# Altium footprint library TTNNODE_V3.PcbLib: 21 footprints (part 1 of 2)
Each footprint in its own frame and in the unit in brackets; x right, y up, seen from the top. Pads: shape width x height; smd on the part's side, far side on the other; paste and mask are expansions set on the pad; w line width, h text height; cw(c..) or ccw(c..) is an arc to the next point about the centre after c.
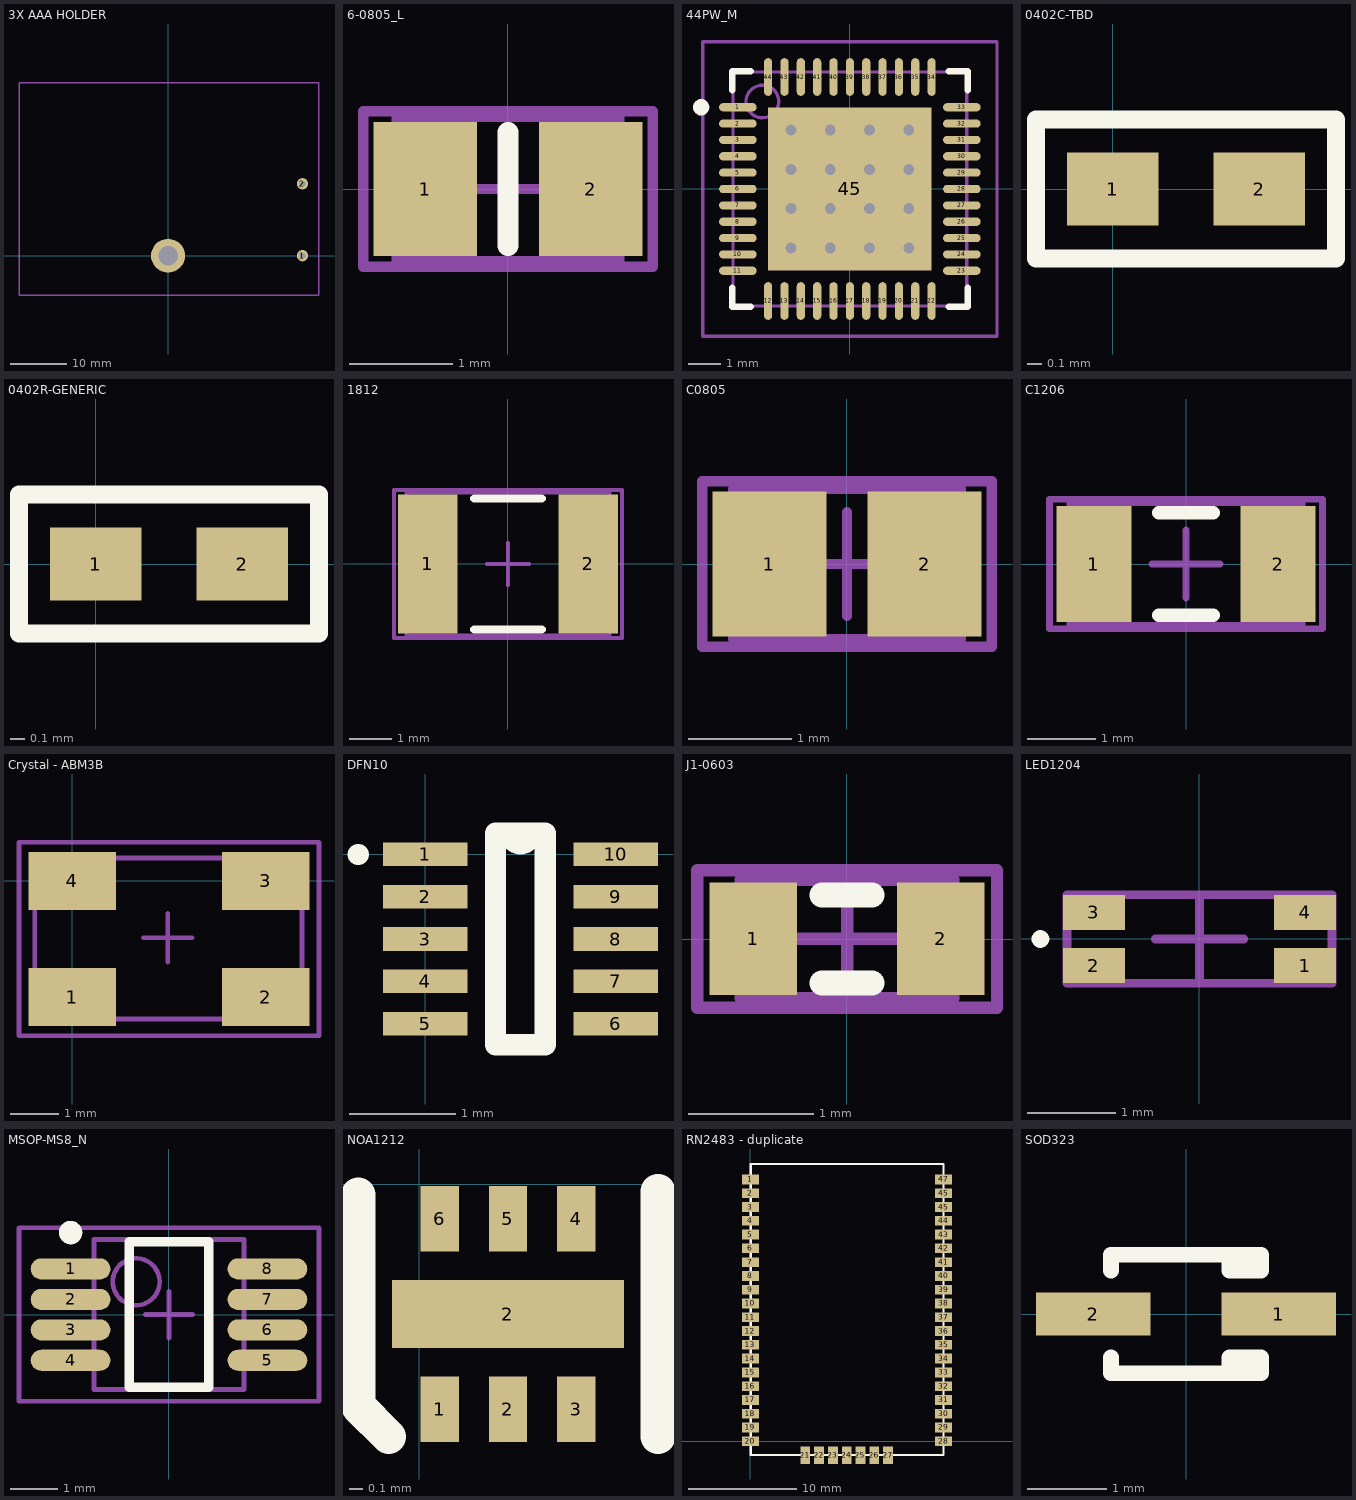
[diagram p0: the footprints below, top view; thin cyan lines are the x and y axes]

## 3X AAA HOLDER [mm] "Keystone PC Battery HOLDER (3) 'AAA': farnell: 1080990"
height 13
pads (3):
  round 2 hole 1.02: 1(23.725,0) 2(23.725,12.7)
  round 6 hole 3.45 unplated: ""(0,0)
Mechanical 1:
  lines w0.254: -26.325,-6.975 26.65,-6.975 26.65,30.525 -26.325,30.525 -26.325,-6.975
3D body "keystone-PN2479.STEP": height 13.78, standoff -12.14, extent -26.334,-6.975 26.65,30.515

## 6-0805_L [mm] "Chip Resistor, Body 2.0x1.2mm, IPC High Density"
height 0.7
pads (2):
  rect 1x1.3 smd: 1(-0.8,0) 2(0.8,0)
Top Overlay:
  lines w0.2: 0,-0.55 0,0.55
Mechanical 13:
  lines w0.1: -1.075,-0.7 1.075,-0.7 1.075,0.7 -1.075,0.7 -1.075,-0.7
Mechanical 15:
  lines w0.1: -0.5,0 0.5,0 ; 0,-0.5 0,0.5 ; -1.4,-0.75 1.4,-0.75 1.4,0.75 -1.4,0.75 -1.4,-0.75
3D body: height 0.7, standoff 0, extent -1.075,-0.7 1.075,0.7

## 44PW_M [mm] "QFN, 44-Leads, Body 7x7mm, Pitch 0.5mm, IPC Low Density"
height 1
pads (45):
  oval 1.15x0.25 smd: 1(-3.425,2.5) 2(-3.425,2) 3(-3.425,1.5) 4(-3.425,1) 5(-3.425,0.5) 6(-3.425,0) 7(-3.425,-0.5) 8(-3.425,-1) 9(-3.425,-1.5) 10(-3.425,-2) 11(-3.425,-2.5) 23(3.425,-2.5) 24(3.425,-2) 25(3.425,-1.5) 26(3.425,-1) 27(3.425,-0.5) 28(3.425,0) 29(3.425,0.5) 30(3.425,1) 31(3.425,1.5) 32(3.425,2) 33(3.425,2.5)
  oval 0.25x1.15 smd: 12(-2.5,-3.425) 13(-2,-3.425) 14(-1.5,-3.425) 15(-1,-3.425) 16(-0.5,-3.425) 17(0,-3.425) 18(0.5,-3.425) 19(1,-3.425) 20(1.5,-3.425) 21(2,-3.425) 22(2.5,-3.425) 34(2.5,3.425) 35(2,3.425) 36(1.5,3.425) 37(1,3.425) 38(0.5,3.425) 39(0,3.425) 40(-0.5,3.425) 41(-1,3.425) 42(-1.5,3.425) 43(-2,3.425) 44(-2.5,3.425)
  rect 5x5 smd paste-0.3: 45(0,0)
via -1.8,1.8 diameter 0.66 hole 0.33
via -0.6,1.8 diameter 0.66 hole 0.33
via 0.6,1.8 diameter 0.66 hole 0.33
via 1.8,1.8 diameter 0.66 hole 0.33
via -1.8,0.6 diameter 0.66 hole 0.33
via -0.6,0.6 diameter 0.66 hole 0.33
via 0.6,0.6 diameter 0.66 hole 0.33
via 1.8,0.6 diameter 0.66 hole 0.33
via -1.8,-0.6 diameter 0.66 hole 0.33
via -0.6,-0.6 diameter 0.66 hole 0.33
via 0.6,-0.6 diameter 0.66 hole 0.33
via 1.8,-0.6 diameter 0.66 hole 0.33
via -1.8,-1.8 diameter 0.66 hole 0.33
via -0.6,-1.8 diameter 0.66 hole 0.33
via 0.6,-1.8 diameter 0.66 hole 0.33
via 1.8,-1.8 diameter 0.66 hole 0.33
Top Overlay:
  circle w0.25: c-4.55,2.5 r0.125
  lines w0.2: -3.6,-3.025 -3.6,-3.6 -3.025,-3.6 ; -3.6,3.025 -3.6,3.6 -3.025,3.6 ; 3.025,-3.6 3.6,-3.6 3.6,-3.025 ; 3.025,3.6 3.6,3.6 3.6,3.025
Mechanical 13:
  circle w0.1: c-2.675,2.675 r0.5
  lines w0.1: -3.575,-3.575 -3.575,3.575 3.575,3.575 3.575,-3.575 -3.575,-3.575
Mechanical 15:
  lines w0.1: -0.5,0 0.5,0 ; 0,-0.5 0,0.5 ; -4.5,-4.5 -4.5,4.5 4.5,4.5 4.5,-4.5 -4.5,-4.5
3D body: height 1, standoff 0, extent -3.575,-3.575 3.575,3.575

## 0402C-TBD [mil]
pads (2):
  rect 25x20 smd: 1(0,0) 2(40,0)
Top Overlay:
  lines w5: -21,-19 61,-19 61,19 -21,19 -21,-19
3D body: height 19, standoff 0, extent 32,-9 39,9
3D body: height 19, standoff 18, extent 17.5,-3 22.5,5
3D body: height 19, standoff 18, extent 19.5,-5 20.5,-4
3D body: height 19, standoff 18, extent 26,-5 27,-4
3D body: height 19, standoff 18, extent 24,-3 29,5
3D body: height 19, standoff 18, extent 13,-5 14,-4
3D body: height 19, standoff 18, extent 11,-3 16,5
3D body: height 18, standoff 0, extent 3,-8 38,8
3D body: height 19, standoff 0, extent 2,-9 9,9

## 0402R-GENERIC [mil]
pads (2):
  rect 25x20 smd: 1(0,0) 2(40,0)
Top Overlay:
  lines w5: -21,-19 -21,19 61,19 61,-19 -21,-19
3D body: height 13, standoff 0, extent -5.5,-10 3.5,10
3D body: height 14, standoff 0, extent 37,-10 46,10
3D body: height 13, standoff 12, extent 3.5,-8 43.5,8
3D body: height 12, standoff 0, extent -4.5,-9.5 41,9.5

## 1812 [mm] "Chip Capacitor, Body 4.5x3.2mm, IPC High Density"
height 1.4
pads (2):
  rect 1.4x3.3 smd: 1(-1.9,0) 2(1.9,0)
Top Overlay:
  lines w0.2: -0.8,-1.55 0.8,-1.55 ; -0.8,1.55 0.8,1.55
Mechanical 13:
  lines w0.1: -2.4,-1.7 2.4,-1.7 2.4,1.7 -2.4,1.7 -2.4,-1.7
Mechanical 15:
  lines w0.1: -0.5,0 0.5,0 ; 0,-0.5 0,0.5 ; -2.7,-1.75 2.7,-1.75 2.7,1.75 -2.7,1.75 -2.7,-1.75
3D body: height 1.4, standoff 0, extent -2.4,-1.7 2.4,1.7

## C0805 [mm] "Chip Capacitor, Body 2.0x1.3mm, IPC High Density"
height 1.4
pads (2):
  rect 1.1x1.4 smd: 1(-0.75,0) 2(0.75,0)
Mechanical 13:
  lines w0.1: -1.1,-0.725 -1.1,0.725 1.1,0.725 1.1,-0.725 -1.1,-0.725
Mechanical 15:
  lines w0.1: -0.5,0 0.5,0 ; 0,-0.5 0,0.5 ; -1.4,-0.8 -1.4,0.8 1.4,0.8 1.4,-0.8 -1.4,-0.8
3D body: height 1.4, standoff 0, extent -1.1,-0.725 1.1,0.725

## C1206 [mm] "Chip Capacitor, Body 3.2x1.6mm, IPC High Density"
height 1.3
pads (2):
  rect 1.1x1.7 smd: 1(-1.35,0) 2(1.35,0)
Top Overlay:
  lines w0.2: -0.4,-0.75 0.4,-0.75 ; -0.4,0.75 0.4,0.75
Mechanical 13:
  lines w0.1: -1.7,-0.9 1.7,-0.9 1.7,0.9 -1.7,0.9 -1.7,-0.9
Mechanical 15:
  lines w0.1: -0.5,0 0.5,0 ; 0,-0.5 0,0.5 ; -2,-0.95 2,-0.95 2,0.95 -2,0.95 -2,-0.95
3D body: height 1.3, standoff 0, extent -1.7,-0.9 1.7,0.9

## Crystal - ABM3B [mm] "5x3.5 mm 8 Mhz Crystal: ABRACON ABM3B"
height 1.1
pads (4):
  rect 1.8x1.2 smd: 1(0,-2.4) 2(4,-2.4) 3(4,0) 4(0,0)
Mechanical 13:
  lines w0.1: -0.775,-2.85 4.75,-2.85 4.75,0.475 -0.775,0.475 -0.775,-2.85
Mechanical 15:
  lines w0.1: 1.475,-1.175 2.475,-1.175 ; 1.975,-1.675 1.975,-0.675 ; -1.1,-3.2 5.1,-3.2 5.1,0.8 -1.1,0.8 -1.1,-3.2
3D body: height 1.1, standoff 0, extent -0.775,-2.85 4.75,0.475

## DFN10 [mm]
pads (10):
  rect 0.8x0.225 smd mask+0.05: 1(0,0) 2(0,-0.4) 3(0,-0.8) 4(0,-1.2) 5(0,-1.6) 6(1.8,-1.6) 7(1.8,-1.2) 8(1.8,-0.8) 9(1.8,-0.4) 10(1.8,0)
Top Overlay:
  lines w0.2: -0.635,0 -0.631,0 ; 0.665,-1.8 0.665,0.2 1,0.2 cw(c0.9,0.2) 0.8,0.2 1.135,0.2 1.135,-1.8 0.665,-1.8
3D body: height 1, standoff 0, extent -0.1,-1.8 1.9,0.2

## J1-0603 [mm] "Chip Resistor, Body 1.6x0.8mm, IPC High Density"
height 0.9
pads (2):
  rect 0.7x0.9 smd: 1(-0.75,0) 2(0.75,0)
Top Overlay:
  lines w0.2: -0.2,-0.35 0.2,-0.35 ; -0.2,0.35 0.2,0.35
Mechanical 13:
  lines w0.1: -0.85,-0.475 -0.85,0.475 0.85,0.475 0.85,-0.475 -0.85,-0.475
Mechanical 15:
  lines w0.1: -0.475,0 0.475,0 ; 0,-0.475 0,0.475 ; -1.2,-0.55 -1.2,0.55 1.2,0.55 1.2,-0.55 -1.2,-0.55
3D body: height 0.9, standoff 0, extent -0.85,-0.475 0.85,0.475

## LED1204 [mm] "SM RGB LED; 4-Leads; Body 3 x 1 mm (1204-size)"
height 2.25
pads (4):
  rect 0.7x0.4 smd mask+0.05: 1(1.195,-0.3) 2(-1.195,-0.3) 3(-1.195,0.3) 4(1.195,0.3)
Top Overlay:
  circle w0.1: c-1.8,0 r0.05
Mechanical 13:
  lines w0.1: -1.5,-0.5 -1.5,0.5 1.5,0.5 1.5,-0.5 -1.5,-0.5
Mechanical 15:
  lines w0.1: -0.5,0 0.5,0 ; 0,-0.5 0,0.5
3D body: height 2.25, standoff 0, extent -1.499,-0.508 1.499,0.491

## MSOP-MS8_N [mm] "TSOP, 8-Leads, Body 3x3mm, Pitch 0.65mm, IPC Medium Density"
height 1.1
pads (8):
  oval 1.7x0.45 smd: 1(-2.1,0.975) 2(-2.1,0.325) 3(-2.1,-0.325) 4(-2.1,-0.975) 5(2.1,-0.975) 6(2.1,-0.325) 7(2.1,0.325) 8(2.1,0.975)
Top Overlay:
  circle w0.25: c-2.1,1.75 r0.125
  lines w0.2: -0.85,-1.55 0.85,-1.55 0.85,1.55 -0.85,1.55 -0.85,-1.55
Mechanical 13:
  circle w0.1: c-0.7,0.7 r0.5
  lines w0.1: -1.6,-1.6 1.6,-1.6 1.6,1.6 -1.6,1.6 -1.6,-1.6
Mechanical 15:
  lines w0.1: -0.5,0 0.5,0 ; 0,-0.5 0,0.5 ; -3.2,-1.85 3.2,-1.85 3.2,1.85 -3.2,1.85 -3.2,-1.85
3D body: height 1.1, standoff 0, extent -1.6,-1.6 1.6,1.6

## NOA1212 [mm] "Light to current converter"
pads (7):
  rect 0.28x0.48 smd mask+0.05: 1(0.15,-1.65) 2(0.65,-1.65) 3(1.15,-1.65) 4(1.15,-0.25) 5(0.65,-0.25) 6(0.15,-0.25)
  rect 1.7x0.5 smd paste-0.1 mask+0.05: 2(0.65,-0.95)
Top Overlay:
  lines w0.254: -0.45,-0.075 -0.45,-1.375 -0.45,-1.625 -0.225,-1.85 ; 1.75,-1.85 1.75,-0.05
3D body: height 0.55, standoff 0, extent -0.45,-1.9 1.75,0
3D body: height 0.6, standoff 0.55, extent 0.15,-1.4 1.15,-0.575

## RN2483 - duplicate [mm]
pads (47):
  rect 1.6x0.9 smd: 1(0,24.125) 2(0,22.855) 3(0,21.585) 4(0,20.315) 5(0,19.045) 6(0,17.775) 7(0,16.505) 8(0,15.235) 9(0,13.965) 10(0,12.695) 11(0,11.425) 12(0,10.155) 13(0,8.885) 14(0,7.615) 15(0,6.345) 16(0,5.075) 17(0,3.805) 18(0,2.535) 19(0,1.265) 20(0,-0.005) 28(17.8,-0.005) 29(17.8,1.265) 30(17.8,2.535) 31(17.8,3.805) 32(17.8,5.075) 33(17.8,6.345) 34(17.8,7.615) 35(17.8,8.885) 36(17.8,10.155) 37(17.8,11.425) 38(17.8,12.695) 39(17.8,13.965) 40(17.8,15.235) 41(17.8,16.505) 42(17.8,17.775) 43(17.8,19.045) 44(17.8,20.315) 45(17.8,21.585) 45(17.8,22.855) 47(17.8,24.125)
  rect 0.9x1.6 smd: 21(5.06,-1.3) 22(6.33,-1.3) 23(7.6,-1.3) 24(8.87,-1.3) 25(10.14,-1.3) 26(11.41,-1.3) 27(12.68,-1.3)
Top Overlay:
  lines w0.2: 8.325,25.55 17.8,25.55 17.8,-1.275 0.025,-1.275 0.025,25.55 8.582,25.55
3D body: height 0.8, standoff 0, extent 0.075,-1.225 17.775,25.55
3D body: height 1.8, standoff 1, extent 0.75,1.225 17,24.125

## SOD323 [mm] "SOD-323/SC-76; 2 Leads; Body 1.7 x 1.3 mm, (LxW)"
height 1.1
pads (2):
  rect 1.45x0.55 smd: 1(1.175,0) 2(-1.175,0)
Top Overlay:
  lines w0.2: -0.95,-0.55 -0.95,-0.75 0.95,-0.75 0.95,-0.55 0.55,-0.55 0.55,-0.75 ; -0.95,0.55 -0.95,0.75 0.95,0.75 0.95,0.55 0.55,0.55 0.55,0.75